# EAGLE library part ST95HF (library m_ic-comm)
The ST95HF is an integrated transceiver IC for contactless applications. The ST95HF manages frame coding and decoding in Reader and Card Emulation modes for standard applications such as Near Field Communication (NFC), proximity and vicinity standards. The ST95HF embeds an Analog Front End to provide the 13.56 MHz Air Interface. The ST95HF supports ISO/IEC 14443 Type A and B communication in Reader and Card Emulation modes, ISO/IEC 15693 (single or double subcarrier in Reader mode only) and ISO/IEC 18092 communication protocols in Reader and Card Emulation modes. The ST95HF also supports the detection, reading and writing of NFC Forum Type 1, 2, 3 and 4 tags.
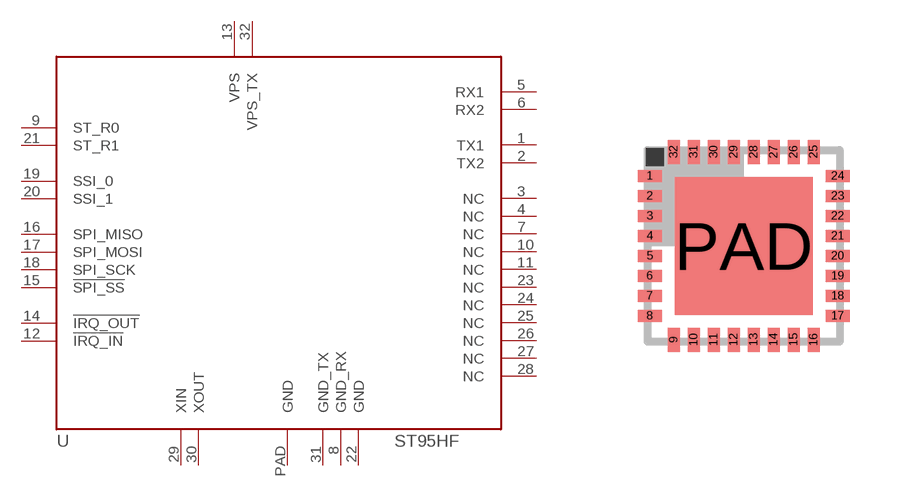
[diagram p6: symbol with the pads of VFQFPN32; footprint VFQFPN32]

Designator prefix U

## ST95HF (MANUF: ST Microelectronics; PARTNUM: ST95HF)  [VFQFPN32]
1  TX1
2  TX2
3  NC
4  NC
5  RX1
6  RX2
7  NC
8  GND_RX
9  ST_R0
10  NC
11  NC
12  !IRQ_IN
13  VPS
14  !IRQ_OUT
15  !SPI_SS
16  SPI_MISO
17  SPI_MOSI
18  SPI_SCK
19  SSI_0
20  SSI_1
21  ST_R1
22  GND
23  NC
24  NC
25  NC
26  NC
27  NC
28  NC
29  XIN
30  XOUT
31  GND_TX
32  VPS_TX
PAD  GND

## Footprint VFQFPN32 (pad centres in mm)
32-lead very thin fine pitch quad flat no-lead package (5 x 5) Source: Data sheet <http://www.st.com/stonline/products/literature/ds/14771/stm8s105c4.pdf>
smd 0.6 x 0.3: 1 -2.35,1.75; 2 -2.35,1.25; 3 -2.35,0.75; 4 -2.35,0.25; 5 -2.35,-0.25; 6 -2.35,-0.75; 7 -2.35,-1.25; 8 -2.35,-1.75; 17 2.35,-1.75; 18 2.35,-1.25; 19 2.35,-0.75; 20 2.35,-0.25; 21 2.35,0.25; 22 2.35,0.75; 23 2.35,1.25; 24 2.35,1.75
smd 0.3 x 0.6: 9 -1.75,-2.35; 10 -1.25,-2.35; 11 -0.75,-2.35; 12 -0.25,-2.35; 13 0.25,-2.35; 14 0.75,-2.35; 15 1.25,-2.35; 16 1.75,-2.35; 25 1.75,2.35; 26 1.25,2.35; 27 0.75,2.35; 28 0.25,2.35; 29 -0.25,2.35; 30 -0.75,2.35; 31 -1.25,2.35; 32 -1.75,2.35
smd 3.45 x 3.45: PAD 0,0